# EAGLE library part DSUB9RA (library ScouseTom_New)
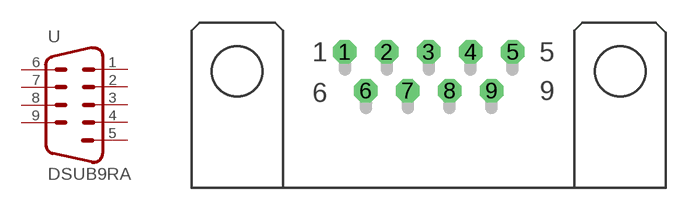
[diagram p1: symbol with the pads of DSUB9; footprint DSUB9]

Designator prefix -

## DSUB9RA  [DSUB9]
1  1  pas
2  2  pas
3  3  pas
4  4  pas
5  5  pas
6  6  pas
7  7  pas
8  8  pas
9  9  pas

## Footprint DSUB9 (pad centres in mm)
drill 1.016 octagon: 1 -5.486,0; 2 -2.743,0; 3 0,0; 4 2.743,0; 5 5.486,0; 6 -4.115,-2.54; 7 -1.372,-2.54; 8 1.372,-2.54; 9 4.115,-2.54
hole 3.302 at 12.522,-1.27
hole 3.302 at -12.522,-1.27